# Altium schematic symbol library CDBU0320.SchLib: 1 symbol
Pins are listed as number, name and electrical type; pins without a type are passive.

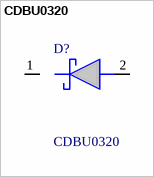
[diagram p0: symbol CDBU0320]

## CDBU0320
designator D?
Schottky Diodes & Rectifiers SCHOTTKY 350mA 20V; Manufacturer_Name: Comchip Technology; Geometry.Height: 0.85mm; Mouser Part Number: 750-CDBU0320; Mouser Price/Stock: https://www.mouser.co.uk/ProductDetail/Comchip-Technology/CDBU0320?qs=2qJf6qQ4IOLozcGqmreGCw%3D%3D; Manufacturer_Part_Number: CDBU0320; Datasheet Link: https://componentsearchengine.com/Datasheets/1/CDBU0320.pdf
footprint DIOM179X85N
pins: 1 K, 2 A